# Altium footprint library Antenas.PcbLib: 6 footprints
Each footprint in its own frame and in the unit in brackets; x right, y up, seen from the top. Pads: shape width x height; smd on the part's side, far side on the other; paste and mask are expansions set on the pad; w line width, h text height; cw(c..) or ccw(c..) is an arc to the next point about the centre after c.
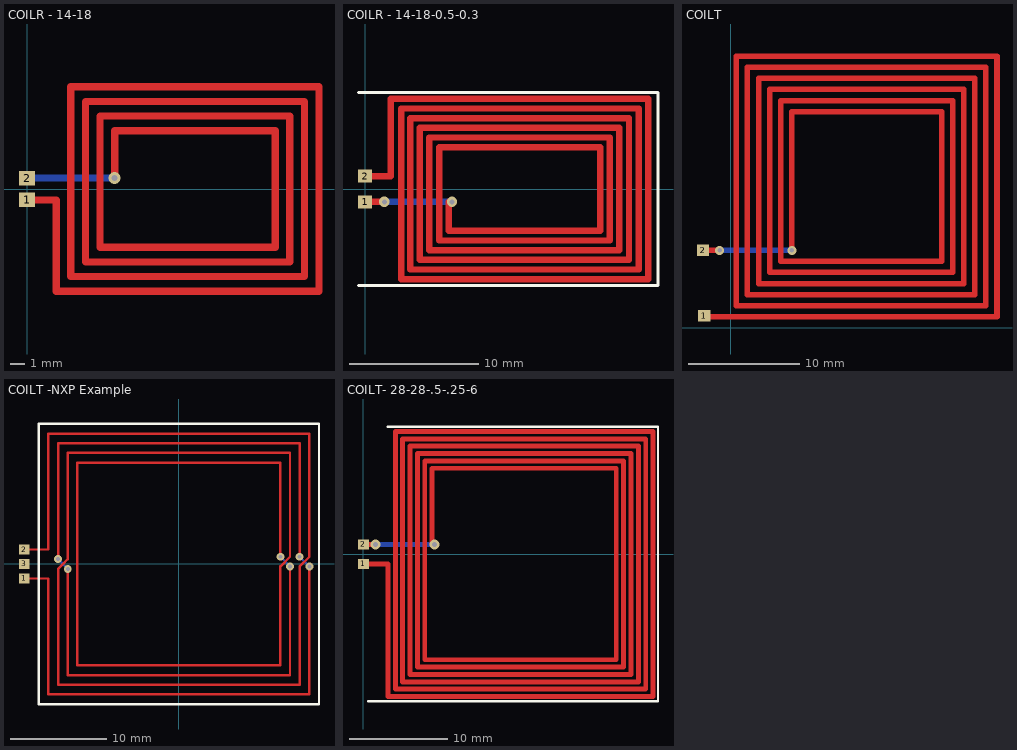
[diagram p0: the footprints below, top view; thin cyan lines are the x and y axes]

## Coil Norma [mm]

## COILR - 14-18 [mm] "Simulado 322.4nH"
pads (2):
  rect 1.1x1 smd: 1(0,-0.75) 2(0,0.75)
via 6,0.75 diameter 0.813 hole 0.406
Top Layer:
  lines w0.5: 0,-0.75 2,-0.75 2,-7 20,-7 20,7 3,7 3,-6 19,-6 19,6 4,6 4,-5 18,-5 18,5 5,5 5,3 5,-4 17,-4 17,4 6,4 6,0.75
Bottom Layer:
  lines w0.5: 0,0.75 6,0.75

## COILR - 14-18-0.5-0.3 [mm] "Simulado 667.1nH"
pads (2):
  rect 1.1x1 smd: 1(0,-1) 2(0,1)
via 6.75,-1 diameter 0.813 hole 0.406
via 1.5,-1 diameter 0.813 hole 0.406
Top Layer:
  lines w0.254: 6.5,-1 6.75,-1
  lines w0.5: 0,-1 1.5,-1 ; 0,1 2,1 2,7 22,7 22,-7 2.8,-7 2.8,6.25 21.25,6.25 21.25,-6.25 ; 6.5,-1 6.5,-3.25 18.25,-3.25 18.25,3.25 5.75,3.25 5.75,-4 19,-4 19,4 5,4 5,-4.75 19.75,-4.75 19.75,4.75 4.25,4.75 4.25,-5.5 20.5,-5.5 20.5,5.5 3.5,5.5 3.5,-6.25 21.25,-6.25 ; 21.25,-6.25 21.25,-6.25
Bottom Layer:
  lines w0.5: 1.5,-1 6.75,-1
Top Overlay:
  lines w0.254: -0.5,-7.5 22.75,-7.5 22.75,7.5 -0.5,7.5

## COILT [mm] "Simulado 1.07uH"
pads (2):
  rect 1.1x1 smd: 1(-2.4,1.1) 2(-2.5,7)
via -1,7 diameter 0.813 hole 0.406
via 5.5,7 diameter 0.813 hole 0.406
Top Layer:
  lines w0.5: -2.5,7 -1,7 ; -2.4,1 24,1 24,24 24,24.5 0.5,24.5 0.5,2 23,2 23,23.5 1.5,23.5 1.5,3 22,3 22,22.5 2.5,22.5 2.5,4 21,4 21,21.5 3.5,21.5 3.5,5 20,5 20,20.5 4.5,20.5 4.5,6 19,6 19,19.5 5.5,19.5 5.5,7
Bottom Layer:
  lines w0.5: -1,7 5.5,7

## COILT -NXP Example [mm]
pads (3):
  rect 1.1x1 smd: 1(-16,-1.5) 2(-16,1.5) 3(-16,0)
via 10.5,0.75 diameter 0.813 hole 0.406
via -11.5,-0.5 diameter 0.813 hole 0.406
via -12.5,0.5 diameter 0.813 hole 0.406
via 13.5,-0.25 diameter 0.813 hole 0.406
via 11.5,-0.25 diameter 0.813 hole 0.406
via 12.5,0.75 diameter 0.813 hole 0.406
Top Layer:
  lines w0.254: -16,-1.5 -13.5,-1.5 -13.5,-13.5 13.5,-13.5 13.5,-0.25 ; -16,1.5 -13.5,1.5 -13.5,13.5 13.5,13.5 13.5,0.75 12.5,-0.25 12.5,-6.25 12.5,-12.5 -12.5,-12.5 -12.5,-1.5 -12.5,-1 -12.5,-0.5 -12,0 ; -12.5,0.5 -12.5,12.5 12.5,12.5 12.5,6.25 12.5,0.75 ; -11.5,-0.5 -11.5,-11.5 11.5,-11.5 11.5,-0.25 ; 10.5,0.75 10.5,10.5 -10.5,10.5 -10.5,10 -10.5,-10.5 10.5,-10.5 10.5,-0.25 11.5,0.75 11.5,11.5 -11.5,11.5 -11.5,0.5 -12,0 ; -12,0 -12,0
Bottom Layer:
  lines w0.254: -11.5,-0.5 -12.5,0.5 ; 10.5,0.75 11.5,-0.25 ; 12.5,0.75 13.5,-0.25 ; -12.5,0.5 -12.5,0.5
Top Overlay:
  lines w0.254: -14.5,-14.5 -14.5,14.5 14.5,14.5 14.5,-14.5 -14.5,-14.5

## COILT- 28-28-.5-.25-6 [mm] "Simulado 1.6uH"
pads (2):
  rect 1.1x1 smd: 1(0,-1) 2(0,1)
via 1.25,1 diameter 1.016 hole 0.508
via 7.25,1 diameter 1.016 hole 0.508
Top Layer:
  lines w0.5: 0,-1 2.5,-1 2.5,-14.5 29.5,-14.5 29.5,8.775 29.5,12.5 3.25,12.5 3.25,-13.75 28.75,-13.75 28.75,11.75 4,11.75 4,-13 28,-13 28,11 4.75,11 4.75,-12.25 27.25,-12.25 27.25,10.25 5.5,10.25 5.5,-11.5 26.5,-11.5 26.5,9.5 6.25,9.5 6.25,-10.75 25.75,-10.75 25.75,8.75 7,8.75 7,1.5 7,1 ; 0,1 1.25,1
Bottom Layer:
  lines w0.5: 1.25,1 7,1
Top Overlay:
  lines w0.254: 0.5,-15 30,-15 30,13 2.5,13